# EAGLE library part 653009117322 (library WR-WTB)
WR-WTB 1.25 mm Male Horizontal Shrouded Header Material Properties Insulator Material PA9T Insulator Flammability Rating UL94 V-0 Color Ivory Contact Material Copper Alloy Contact Plating Tin Contact Type Stamped Certification UL Approval E323964 General Information Operating Temperature -40 °C up to +85 °C Compliance RoHS IR 1 A Working Voltage 125 V (AC) Withstanding Voltage 250 V (AC) Contact Resistance 20 mΩ RISO 100 MΩ Pitch 1.25 mm Gender Male Type Horizontal Packaging Properties Packaging Tube Details see: www.we-online.com/en/components/products/WTB_1_25_MALE_HORIZONTAL_SHROUDED_HEADER_6530XX117322 Updated by Ella 2025-03-06 2025 (C) Würth Elektronik
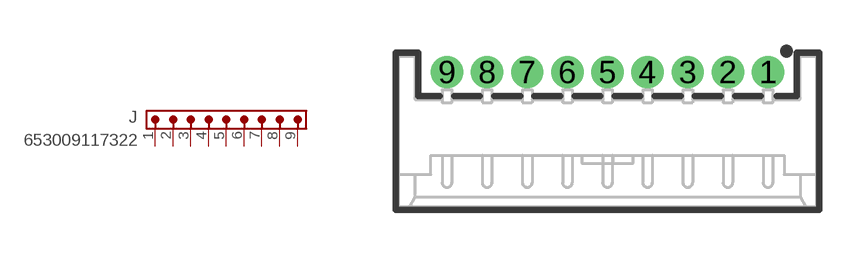
[diagram p15: symbol with the pads of 653009117322; footprint 653009117322]

Designator prefix J

## 653009117322 (CONTACT-RESISTANCE: 20mOhm; DATASHEET: https://www.we-online.com/redexpert/spec/653009117322?ae; GENDER: Male; IR: 1A; L: 13mm; MOUNT: THT; PACKAGING: Tube; PART-NUMBER: 653009117322; PCB-CABLE-PANEL: PCB; PINS: 9; PITCH: 1.25mm; TYPE: Horizontal; VALUE: 653009117322; WORKING-VOLTAGE: 125V(AC))  [653009117322]
1  1  pas
2  2  pas
3  3  pas
4  4  pas
5  5  pas
6  6  pas
7  7  pas
8  8  pas
9  9  pas

## Footprint 653009117322 (pad centres in mm)
WR-WTB 1.25 mm Male Horizontal Shrouded Header,9 Pins
drill 0.5 pad 0.8: 1 5,1.85; 2 3.75,1.85; 3 2.5,1.85; 4 1.25,1.85; 5 0,1.85; 6 -1.25,1.85; 7 -2.5,1.85; 8 -3.75,1.85; 9 -5,1.85